# Altium footprint library 接插件.PcbLib: 91 footprints (part 6 of 6)
Each footprint in its own frame and in the unit in brackets; x right, y up, seen from the top. Pads: shape width x height; smd on the part's side, far side on the other; paste and mask are expansions set on the pad; w line width, h text height; cw(c..) or ccw(c..) is an arc to the next point about the centre after c.
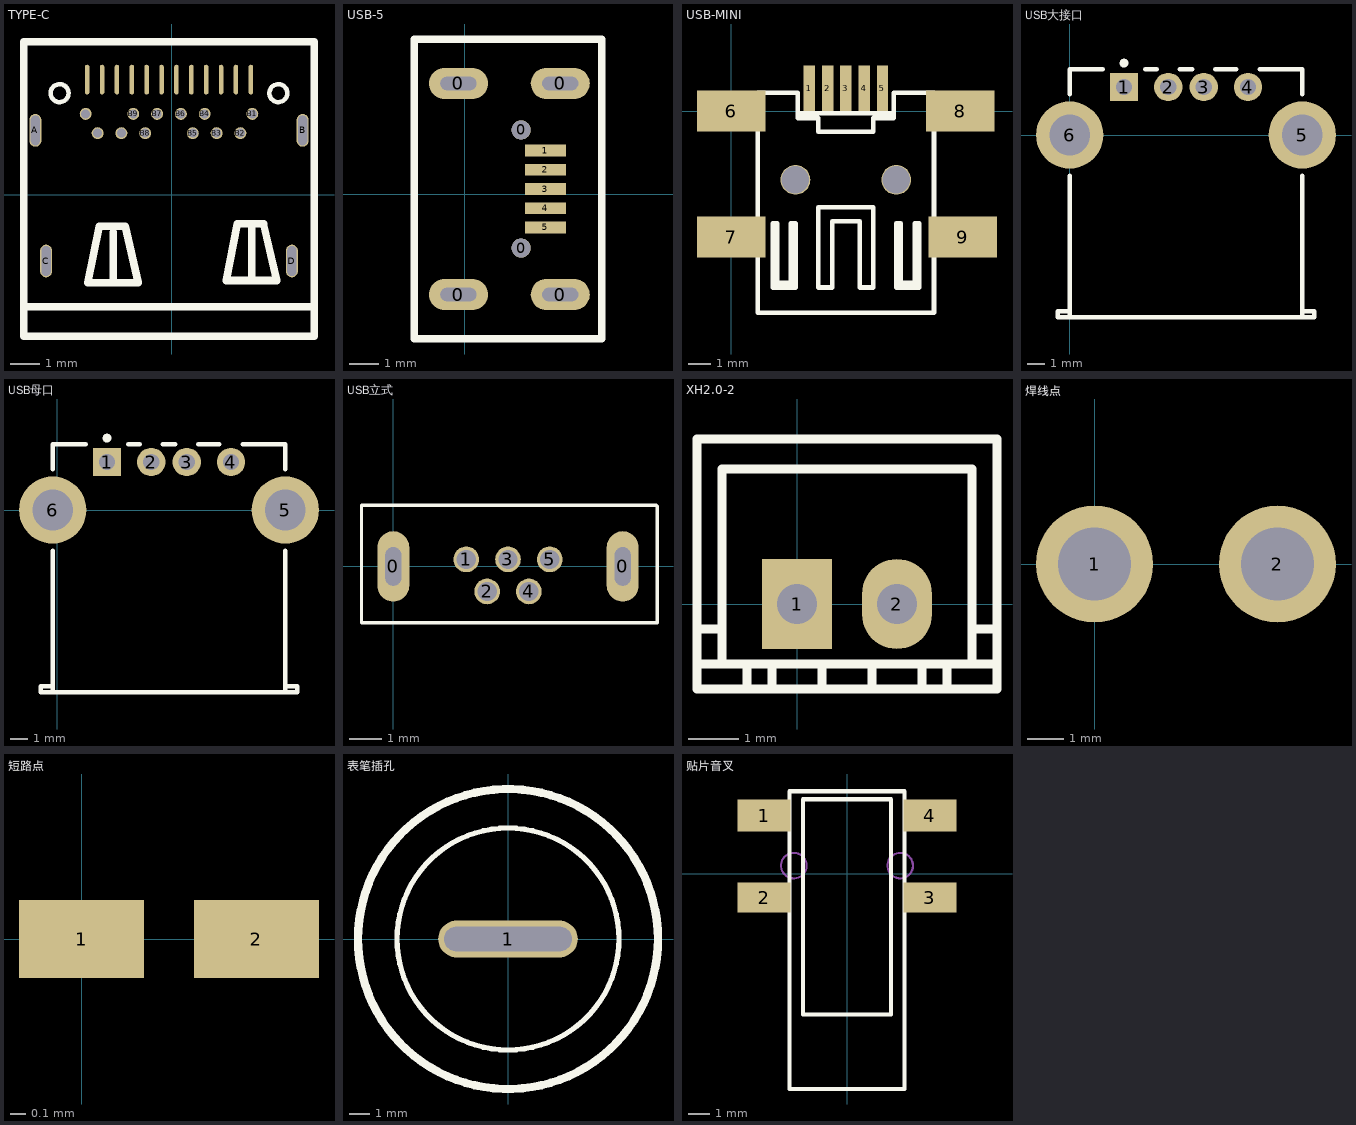
[diagram p5: the footprints below, top view; thin cyan lines are the x and y axes]

## TYPE-C [mm]
pads (28):
  oval 0.4x1.1 hole 0.3 slot 1 at 90 deg: A(-4.581,2.167) B(4.399,2.167) C(-4.221,-2.223) D(4.039,-2.223)
  oval 0.15x1 smd: A1(-2.841,3.872) A2(-2.341,3.872) A3(-1.841,3.872) A4(-1.341,3.872) A5(-0.841,3.872) A6(-0.341,3.872) A7(0.159,3.872) A8(0.659,3.872) A9(1.159,3.872) A10(1.659,3.872) A11(2.159,3.872) A12(2.659,3.872)
  round 0.4 hole 0.3: B1(2.709,2.722) B2(2.309,2.072) B3(1.509,2.072) B4(1.109,2.722) B5(0.709,2.072) B6(0.309,2.722) B7(-0.491,2.722) B8(-0.891,2.072) B9(-1.291,2.722) B10(-1.691,2.072) B11(-2.491,2.072) B12(-2.891,2.722)
Top Overlay:
  circle w0.15: c3.584,3.417 r0.301
  circle w0.15: c-3.766,3.417 r0.301
  lines w0.254: -4.966,-4.453 -4.966,-4.753 ; -4.966,-3.753 4.784,-3.753 ; -4.966,5.117 -4.966,-4.753 ; -4.966,5.147 4.784,5.147 ; -4.266,-3.753 3.784,-3.753 ; -1.966,-2.953 -1.966,-1.253 ; 2.684,-2.877 2.684,-0.977 ; 4.784,5.117 4.784,-4.753 -4.966,-4.753 ; -2.816,-2.953 -1.121,-2.953 -1.566,-1.053 -2.441,-1.053 -2.816,-2.953 ; 1.834,-2.877 2.209,-0.977 3.084,-0.977 3.529,-2.877 1.834,-2.877
3D body: height 2.5, standoff 2, extent -2.828,-2.903 -1.153,-1.053
3D body: height 2.5, standoff 2, extent 1.834,-2.878 3.509,-1.028
3D body: height 0.1, standoff -1, extent 3.914,-2.723 4.164,-1.723
3D body: height 0.1, standoff -1, extent -4.346,-2.723 -4.096,-1.723
3D body: height 0.1, standoff -1, extent 4.274,1.667 4.524,2.667
3D body: height 0.1, standoff -1, extent -4.706,1.667 -4.456,2.667
3D body: height 0.1, standoff 0, extent 2.534,3.372 2.784,4.372
3D body: height 0.1, standoff 0, extent 2.009,3.347 2.259,4.347
3D body: height 0.1, standoff 0, extent 1.534,3.372 1.784,4.372
3D body: height 0.1, standoff 0, extent 1.009,3.372 1.259,4.372
3D body: height 0.1, standoff 0, extent 0.534,3.372 0.784,4.372
3D body: height 0.1, standoff 0, extent 0.034,3.372 0.284,4.372
3D body: height 0.1, standoff 0, extent -0.466,3.372 -0.216,4.372
3D body: height 0.1, standoff 0, extent -0.966,3.372 -0.716,4.372
3D body: height 0.1, standoff 0, extent -1.466,3.372 -1.216,4.372
3D body: height 0.1, standoff 0, extent -1.966,3.372 -1.716,4.372
3D body: height 0.1, standoff 0, extent -2.466,3.372 -2.216,4.372
3D body: height 0, standoff -1, extent -2.639,1.922 -2.341,2.222
3D body: height 0, standoff -1, extent -1.839,1.922 -1.541,2.222
3D body: height 0, standoff -1, extent -1.039,1.922 -0.741,2.222
3D body: height 0, standoff -1, extent 0.561,1.922 0.859,2.222
3D body: height 0, standoff -1, extent 1.361,1.922 1.659,2.222
3D body: height 0, standoff -1, extent 2.161,1.922 2.459,2.222
3D body: height 0, standoff -1, extent 2.561,2.572 2.859,2.872
3D body: height 0, standoff -1, extent 0.961,2.572 1.259,2.872
3D body: height 0, standoff -1, extent 0.161,2.572 0.459,2.872
3D body: height 0, standoff -1, extent -0.639,2.572 -0.341,2.872
3D body: height 0, standoff -1, extent -1.439,2.572 -1.141,2.872
3D body: height 0, standoff -1, extent -3.039,2.572 -2.741,2.872
3D body: height 0.1, standoff 0, extent -2.966,3.372 -2.716,4.372
3D body: height 2, standoff 0.1, extent 3.734,-5.028 5.009,5.372
3D body: height 2, standoff 0.1, extent -5.241,-5.003 -3.966,5.397
3D body: height 2.53, standoff 1.27, extent 3.759,-5.028 5.014,5.372
3D body: height 2.58, standoff 1.32, extent -5.216,-5.028 -3.961,5.372
3D body: height 2.5, standoff 2, extent -4.588,-5.028 4.387,5.372

## USB-5 [mm]
pads (11):
  oval 2x1.05 hole 0.45 slot 1.225 at 0 deg: 0(-0.207,-3.397) 0(-0.207,3.753) 0(3.243,-3.397) 0(3.243,3.753)
  round 0.65 hole 0.65: 0(1.918,-1.822) 0(1.918,2.178)
  rect 1.4x0.4 smd: 1(2.743,1.478) 2(2.743,0.828) 3(2.743,0.178) 4(2.743,-0.472) 5(2.743,-1.122)
Top Overlay:
  lines w0.254: -1.702,-4.902 4.648,-4.902 4.648,5.258 -1.702,5.258 -1.702,-4.902

## USB-MINI [mm]
pads (11):
  rect 0.5x2 smd: 1(3.4,1) 2(4.2,1) 3(5,1) 4(5.8,1) 5(6.6,1)
  rect 3x1.8 smd: 6(0,0) 7(0,-5.5) 8(10,0) 9(10.1,-5.5)
  round 1.3 hole 1.2: ""(2.8,-3) ""(7.2,-3)
Top Overlay:
  lines w0.2: 2.1,-7.5 2.6,-7.5 ; 7.1,-0.1 2.9,-0.1 ; 7.5,-7.5 8,-7.5 ; 2.9,-0.1 2.9,0.8 1.15,0.8 1.15,-8.8 8.85,-8.8 8.85,0.8 7.1,0.8 7.1,-0.3 6.2,-0.3 6.2,-0.9 3.8,-0.9 3.8,-0.3 2.9,-0.3 2.9,-0.1 ; 1.8,-7.7 2.8,-7.7 2.8,-7.2 2.8,-4.9 2.6,-4.9 2.6,-7.7 2,-7.7 2,-4.9 1.9,-4.9 1.8,-4.9 1.8,-7.7 ; 3.8,-7.7 3.8,-4.2 6.2,-4.2 6.2,-7.7 5.6,-7.7 5.6,-4.8 4.4,-4.8 4.4,-7.7 3.8,-7.7 ; 7.2,-7.7 7.2,-4.9 7.3,-4.9 7.4,-4.9 7.4,-7.7 8,-7.7 8,-4.9 8.2,-4.9 8.2,-7.2 8.2,-7.7 7.2,-7.7

## USB大接口 [mm]
pads (6):
  rect 1.6x1.6 hole 0.92: 1(3.07,2.71)
  round 1.6 hole 0.92: 2(5.57,2.71) 3(7.57,2.71) 4(10.07,2.71)
  round 3.8 hole 2.3: 5(13.14,0) 6(0,0)
Top Overlay:
  circle w0.25: c3.07,4.06 r0.125
  lines w0.254: 0.005,-9.96 -0.68,-9.96 -0.68,-10.28 0.005,-10.28 ; 0.005,-2.3 0.005,-10.28 ; 0.005,2.3 0.005,3.72 1.87,3.72 ; 4.27,3.72 4.91,3.72 ; 6.23,3.72 6.91,3.72 ; 8.23,3.72 9.41,3.72 ; 10.73,3.72 13.135,3.72 13.135,2.3 ; 13.135,-9.96 13.82,-9.96 13.82,-10.28 13.135,-10.28 ; 13.135,-2.3 13.135,-10.28 ; 0.005,-10.28 13.135,-10.28

## USB母口 [mm]
pads (6):
  rect 1.6x1.6 hole 0.92: 1(2.82,2.71)
  round 1.6 hole 0.92: 2(5.32,2.71) 3(7.32,2.71) 4(9.82,2.71)
  round 3.8 hole 2.3: 5(12.89,0) 6(-0.25,0)
Top Overlay:
  circle w0.25: c2.82,4.06 r0.125
  lines w0.254: -0.245,-9.96 -0.93,-9.96 -0.93,-10.28 -0.245,-10.28 ; -0.245,-2.3 -0.245,-10.28 ; -0.245,2.3 -0.245,3.72 1.62,3.72 ; 4.02,3.72 4.66,3.72 ; 5.98,3.72 6.66,3.72 ; 7.98,3.72 9.16,3.72 ; 10.48,3.72 12.885,3.72 12.885,2.3 ; 12.885,-9.96 13.57,-9.96 13.57,-10.28 12.885,-10.28 ; 12.885,-2.3 12.885,-10.28 ; -0.245,-10.28 12.885,-10.28

## USB立式 [mm]
pads (7):
  oval 1x2.2 hole 0.5 slot 1.2 at 90 deg: 0(0,0) 0(7.15,0)
  round 0.8 hole 0.6: 1(2.275,0.22) 2(2.925,-0.78) 3(3.575,0.22) 4(4.225,-0.78) 5(4.875,0.22)
Top Overlay:
  lines w0.1: -0.991,-1.753 -0.991,1.905 8.204,1.905 8.23,1.88 8.23,-1.753 -0.991,-1.753

## XH2.0-2 [mm]
pads (2):
  rect 1.4x1.8 hole 0.8: 1(-0.002,0)
  oval 1.4x1.8 hole 0.8: 2(1.998,0)
Top Overlay:
  lines w0.178: -2.002,-1.2 3.998,-1.2 ; -2.002,-0.5 -1.502,-0.5 ; -1.502,-1.1 -1.502,2.7 3.498,2.7 3.498,-1.1 ; -1.002,-1.7 -1.002,-1.2 ; -0.502,-1.6 -0.502,-1.21 ; 0.498,-1.7 0.498,-1.2 ; 1.498,-1.7 1.498,-1.2 ; 2.498,-1.7 2.498,-1.2 ; 2.998,-1.7 2.998,-1.2 ; 3.498,-0.5 3.998,-0.5 ; -2.002,-1.7 3.998,-1.7 3.998,3.3 -2.002,3.3 -2.002,-1.7

## 焊线点 [mm]
pads (2):
  round 3.2 hole 2: 1(0,0) 2(5,0)

## 短路点 [mm]
pads (2):
  rect 0.8x0.5 smd: 1(0,0) 2(1.118,0)

## 表笔插孔 [mm]
pads (1):
  oval 6.8x1.8 hole 1.2 slot 6.2 at 0 deg: 1(0,0)
Top Overlay:
  circle w0.4: c0,0 r7.3
  circle w0.254: c0,0 r5.4

## 贴片音叉 [mm]
pads (4):
  rect 2.5x1.5 smd: 1(-3.914,2.731) 4(3.886,2.731)
  rect 2.5x1.4 smd: 2(-3.914,-1.119) 3(3.886,-1.119)
Top Overlay:
  lines w0.2: -2.714,-10.119 -2.714,3.881 2.686,3.881 2.686,-10.119 -2.714,-10.119 ; -2.084,-6.619 -2.084,3.499 2.056,3.499 2.056,-6.619 -2.084,-6.619
Mechanical 1:
  circle w0.1: c-2.514,0.381 r0.6
  circle w0.1: c2.486,0.381 r0.6